# Altium footprint library QUTMS-MCISOLibrary.PcbLib: 37 footprints (part 1 of 3)
Each footprint in its own frame and in the unit in brackets; x right, y up, seen from the top. Pads: shape width x height; smd on the part's side, far side on the other; paste and mask are expansions set on the pad; w line width, h text height; cw(c..) or ccw(c..) is an arc to the next point about the centre after c.
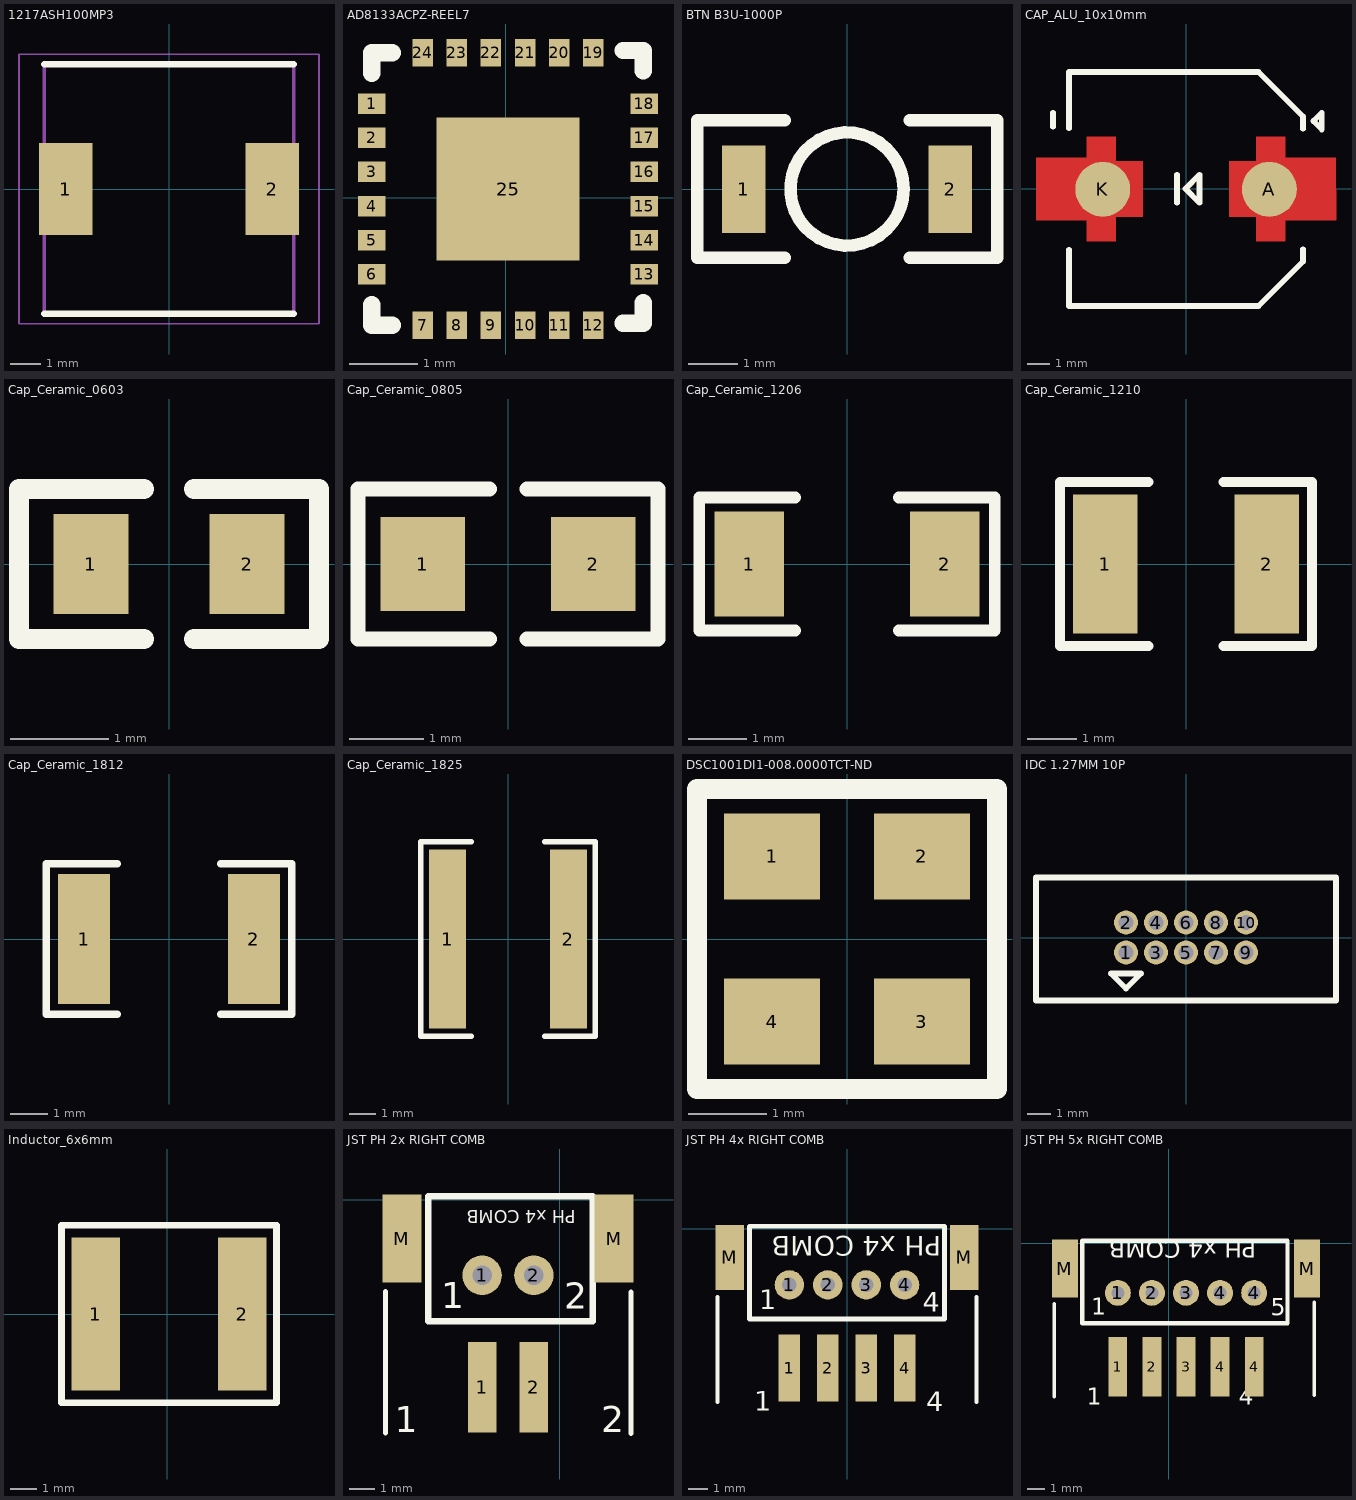
[diagram p0: the footprints below, top view; thin cyan lines are the x and y axes]

## 1217ASH100MP3 [mm]
pads (2):
  rect 1.75x3 smd: 1(-3.375,0) 2(3.375,0)
Top Overlay:
  lines w0.2: -4.075,-4.075 4.075,-4.075 ; -4.075,4.075 4.075,4.075
Mechanical 13:
  lines w0.1: -4.075,-4.075 -4.075,4.075 4.075,4.075 4.075,-4.075 -4.075,-4.075
Mechanical 15:
  lines w0.05: -4.9,-4.4 -4.9,4.4 4.9,4.4 4.9,-4.4 -4.9,-4.4
3D body "DEM8045Z-180M=P3.stp": height 4.6, standoff 0, extent -4.075,-4.075 4.075,4.075

## AD8133ACPZ-REEL7 [mm]
pads (25):
  rect 0.4x0.3 smd: 1(-1.97,1.378) 2(-1.97,0.878) 3(-1.97,0.378) 4(-1.97,-0.122) 5(-1.97,-0.622) 6(-1.97,-1.122) 13(2.03,-1.122) 14(2.03,-0.622) 15(2.03,-0.122) 16(2.03,0.378) 17(2.03,0.878) 18(2.03,1.378)
  rect 0.3x0.4 smd: 7(-1.22,-1.872) 8(-0.72,-1.872) 9(-0.22,-1.872) 10(0.28,-1.872) 11(0.78,-1.872) 12(1.28,-1.872) 19(1.28,2.128) 20(0.78,2.128) 21(0.28,2.128) 22(-0.22,2.128) 23(-0.72,2.128) 24(-1.22,2.128)
  rect 2.1x2.1 smd: 25(0.03,0.128)
Top Overlay:
  lines w0.254: -1.97,-1.572 -1.97,-1.872 -1.67,-1.872 ; -1.97,1.828 -1.97,2.128 -1.67,2.128 ; 1.715,-1.839 2.015,-1.839 2.015,-1.539 ; 1.715,2.161 2.015,2.161 2.015,1.861

## BTN B3U-1000P [mil] "OMRON B3U-1000P"
pads (2):
  rect 35x70 smd: 1(-82.68,0) 2(82.68,0)
Top Overlay:
  circle w10: c0,0 r45.28
  lines w10: -50,-55 -120,-55 -120,55 -50,55 ; 50,-55 120,-55 120,55 50,55
3D body "B3U_1000P.step": height 62.99, standoff 0, extent -78.74,-49.21 78.74,49.22

## CAP_ALU_10x10mm [mm]
pads (2):
  round 2.466 smd paste+0 mask+0: A(3.738,-0.013) K(-3.737,-0.013)
Top Layer:
  region: -1.949,-1.25 -1.949,1.25 -3.149,1.25 -3.149,2.35 -4.449,2.35 -4.449,1.397 -6.731,1.397 -6.731,-1.397 -4.449,-1.397 -4.449,-2.35 -3.149,-2.35 -3.149,-1.25
  region: 1.951,-1.25 1.951,1.25 3.151,1.25 3.151,2.35 4.451,2.35 4.451,1.397 6.731,1.397 6.731,-1.397 4.451,-1.397 4.451,-2.35 3.151,-2.35 3.151,-1.25
Top Overlay:
  lines w0.254: -5.969,2.794 -5.969,3.429 ; -5.249,-2.725 -5.249,-5.25 3.251,-5.25 5.251,-3.25 5.251,-2.7 ; -5.249,2.725 -5.249,5.25 3.251,5.25 5.251,3.25 5.251,2.7 ; -0.407,-0.623 -0.407,0.647 ; -0.026,0.012 0.609,-0.623 0.609,0.647 -0.026,0.012 ; 5.715,3.048 6.096,2.667 6.096,3.429 5.715,3.048
3D body "Cap_Panasonic_EEH-ZC1K470V_eec.STEP": height 10.81, standoff 0, extent -5.999,-5.15 6.001,5.15

## Cap_Ceramic_0603 [mil]
pads (2):
  rect 30x40 smd: 1(-31.24,0) 2(31.24,0)
Top Overlay:
  lines w8: -10,-30 -60,-30 -60,30 -10,30 ; 10,-30 60,-30 60,30 10,30
3D body "ceramic_cap_0603.stp": height 33.46, standoff 0, extent -31.49,-15.74 31.51,15.75

## Cap_Ceramic_0805 [mil]
pads (2):
  rect 45x50 smd: 1(-45.43,0) 2(45.43,0)
Top Overlay:
  lines w8: -10,-40 -80,-40 -80,40 -10,40 ; 10,-40 80,-40 80,40 10,40
3D body "ceramic_cap_0805.stp": height 43.31, standoff 0, extent -39.36,-25.58 39.38,25.6

## Cap_Ceramic_1206 [mil]
pads (2):
  rect 47x71 smd: 1(-66.08,0) 2(66.08,0)
Top Overlay:
  lines w8: -35,-45 -100,-45 -100,45 -35,45 ; 35,-45 100,-45 100,45 35,45
3D body "ceramic_cap_1206.stp": height 53.15, standoff 0, extent -62.99,-31.49 63,31.5

## Cap_Ceramic_1210 [mm]
pads (2):
  rect 1.3x2.8 smd: 1(-1.625,0) 2(1.625,0)
Top Overlay:
  lines w0.203: -0.762,-1.651 -2.54,-1.651 -2.54,1.651 -0.762,1.651 ; 0.762,-1.651 2.54,-1.651 2.54,1.651 0.762,1.651
3D body "ceramic_cap_1210.stp": height 1.35, standoff 0, extent -1.6,-1.25 1.6,1.25

## Cap_Ceramic_1812 [mil]
pads (2):
  rect 55x138 smd: 1(-90,0) 2(90,0)
Top Overlay:
  lines w8: -55,-80 -130,-80 -130,80 -55,80 ; 55,-80 130,-80 130,80 55,80
3D body "ceramic_cap_1812.stp": height 53.15, standoff 0, extent -88.58,-62.99 88.59,63

## Cap_Ceramic_1825 [mm]
pads (2):
  rect 1.4x6.8 smd: 1(-2.286,0) 2(2.286,0)
Top Overlay:
  lines w0.203: -1.397,-3.683 -3.302,-3.683 -3.302,3.683 -1.397,3.683 ; 1.397,-3.683 3.302,-3.683 3.302,3.683 1.397,3.683
3D body "ceramic_cap_1825.stp": height 1.1, standoff 0, extent -2.25,-3.2 2.25,3.2

## DSC1001DI1-008.0000TCT-ND [mm]
pads (4):
  rect 1.219x1.092 smd: 1(-0.95,1.05) 2(0.95,1.05) 3(0.95,-1.05) 4(-0.95,-1.05)
Top Overlay:
  lines w0.254: -1.905,-1.905 1.905,-1.905 1.905,1.905 -1.905,1.905 -1.905,-1.905
3D body: height 0.85, standoff 0, extent -1.25,-1.6 1.25,1.6

## IDC 1.27MM 10P [mil]
pads (10):
  round 40 hole 25: 1(-100,-25) 2(-100,25) 3(-50,-25) 4(-50,25) 5(0,-25) 6(0,25) 7(50,-25) 8(50,25) 9(100,-25) 10(100,25)
Top Overlay:
  lines w10: -250,-105 250,-105 250,100 -250,100 -250,-105 ; -125,-60 -75,-60 -100,-85 -125,-60
3D body "CONB127P-2R-10W_TH.STEP": height 213.6, standoff -81.68, extent -249.01,-104.33 249.02,100.4

## Inductor_6x6mm [mm]
pads (2):
  rect 1.8x5.7 smd: 1(-2.667,0) 2(2.794,0)
Top Overlay:
  lines w0.254: -3.937,-3.302 -3.937,3.302 4.064,3.302 4.064,-3.302 -3.937,-3.302
3D body "74404064221_WE-LQS.stp": height 4.56, standoff 0.06, extent -3,-3 3,3

## JST PH 2x RIGHT COMB [mm]
pads (6):
  rect 1.1x3.5 smd: 1(-3,-7.25) 2(-1,-7.25)
  round 1.524 hole 0.762: 1(-3,-2.921) 2(-1,-2.921)
  rect 1.5x3.4 smd: M(-6.1,-1.5) M(2.1,-1.5)
Top Overlay:
  lines w0.2: -6.731,-9.017 -6.731,-3.556 ; -4.953,0.127 1.1,0.127 ; 2.75,-9.036 2.75,-3.575
  lines w0.254: -5.08,-4.699 1.275,-4.699 1.275,0.127 -5.08,0.127 -5.08,-4.699
  text "2" at 1.602,-8.998 h1.02
  text "1" at -6.373,-8.998 h1.02
  text "PH x4 COMB" at 0.616,-0.402 h0.5
  text "2" at 0.177,-4.223 h1.02
  text "1" at -4.572,-4.191 h1.02
3D body "JST - PH - SMD (R) - 2Pin - 2.00mm.stp": height 5.38, standoff 0, extent -6.173,-8.025 1.973,0.23
3D body "JST - PH - Thru (V) - 2Pin - 2.00mm.stp": height 5.89, standoff -3.05, extent -4.88,-4.65 0.981,0.024

## JST PH 4x RIGHT COMB [mm]
pads (10):
  rect 1.1x3.5 smd: 1(-3,-7.25) 2(-1,-7.25) 3(1,-7.25) 4(3,-7.25)
  round 1.524 hole 0.762: 1(-3,-2.921) 2(-1,-2.921) 3(1,-2.921) 4(3,-2.921)
  rect 1.5x3.4 smd: M(-6.1,-1.5) M(6.1,-1.5)
Top Overlay:
  lines w0.2: -6.731,-9.017 -6.731,-3.556 ; -4.953,0.127 4.953,0.127 ; 6.731,-9.017 6.731,-3.556
  lines w0.254: -5.08,-4.699 5.08,-4.699 5.08,0.127 -5.08,0.127 -5.08,-4.699
  text "4" at 4.109,-9.487 h1.02
  text "1" at -4.836,-9.477 h1.02
  text "PH x4 COMB" at 4.909,-0.406 h1.02
  text "4" at 3.937,-4.318 h1.02
  text "1" at -4.572,-4.191 h1.02
3D body "JST - PH - SMD (R) - 4Pin - 2.00mm.stp": height 5.38, standoff 0, extent -6.073,-8.2 6.073,0.055
3D body "JST - PH - Thru (V) - 4Pin - 2.00mm.stp": height 5.89, standoff -3.05, extent -4.931,-4.621 4.93,0.052

## JST PH 5x RIGHT COMB [mm]
pads (12):
  rect 1.1x3.5 smd: 1(-3,-7.25) 2(-1,-7.25) 3(1,-7.25) 4(3,-7.25) 4(5,-7.25)
  round 1.524 hole 0.762: 1(-3,-2.921) 2(-1,-2.921) 3(1,-2.921) 4(3,-2.921) 4(5,-2.921)
  rect 1.5x3.4 smd: M(-6.1,-1.5) M(8.1,-1.5)
Top Overlay:
  lines w0.2: -6.731,-9.017 -6.731,-3.556 ; -4.953,0.127 4.953,0.127 ; 8.531,-8.942 8.531,-3.481
  lines w0.254: -5.08,-4.699 6.95,-4.699 6.95,0.127 -5.08,0.127 -5.08,-4.699
  text "4" at 4.109,-9.487 h1.02
  text "1" at -4.836,-9.477 h1.02
  text "PH x4 COMB" at 5.134,0.148 h1.02
  text "5" at 5.977,-4.248 h1.02
  text "1" at -4.572,-4.191 h1.02
3D body "JST - PH - SMD (R) - 5Pin - 2.00mm.stp": height 5.38, standoff 0, extent -5.998,-8.03 8.148,0.225
3D body "JST - PH - Thru (V) - 5Pin - 2.00mm.stp": height 5.89, standoff -3.05, extent -4.93,-4.621 6.931,0.053